# Altium footprint library 3296W1102LF.PcbLib: 1 footprints
Each footprint in its own frame and in the unit in brackets; x right, y up, seen from the top. Pads: shape width x height; smd on the part's side, far side on the other; paste and mask are expansions set on the pad; w line width, h text height; cw(c..) or ccw(c..) is an arc to the next point about the centre after c.
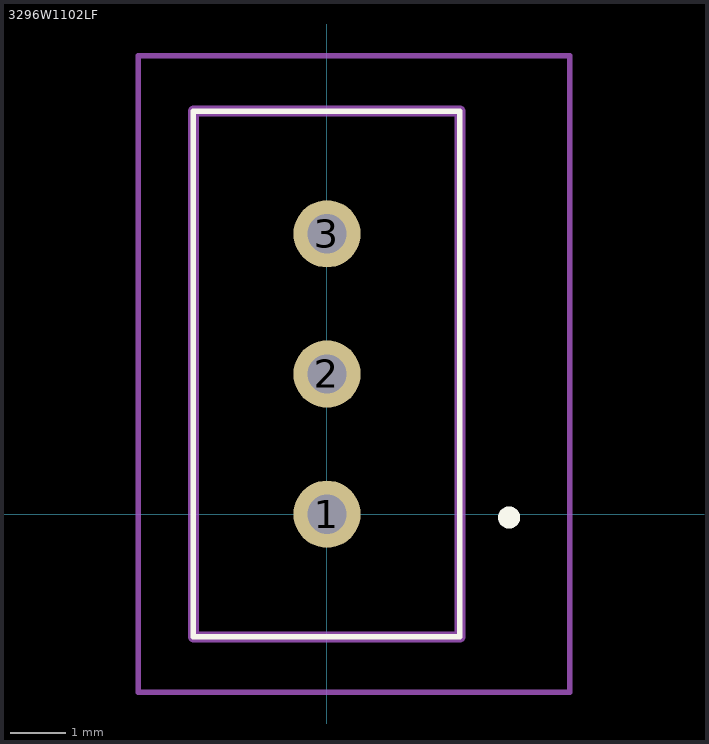
[diagram p0: the footprint, top view; thin cyan lines are the x and y axes]

## 3296W1102LF [mm]
pads (3):
  round 1.217 hole 0.71: 1(0,0) 2(0,2.54) 3(0,5.08)
Top Overlay:
  lines w0.1: -2.42,-2.225 2.41,-2.225 2.41,7.305 -2.42,7.305 -2.42,-2.225
  lines w0.2: 3.2,-0.06 3.2,-0.06 ; 3.2,-0.06 ccw(c3.3,-0.06) 3.4,-0.06 ; 3.2,-0.06 cw(c3.3,-0.06) 3.4,-0.06 ; 3.4,-0.06 3.4,-0.06
Mechanical 15:
  lines w0.2: -2.42,-2.225 2.41,-2.225 2.41,7.305 -2.42,7.305 -2.42,-2.225
Mechanical 20:
  lines w0.1: -3.42,-3.225 4.4,-3.225 4.4,8.305 -3.42,8.305 -3.42,-3.225